# Altium footprint library outros_PCBLIB.PcbLib: 37 footprints (part 3 of 3)
Each footprint in its own frame and in the unit in brackets; x right, y up, seen from the top. Pads: shape width x height; smd on the part's side, far side on the other; paste and mask are expansions set on the pad; w line width, h text height; cw(c..) or ccw(c..) is an arc to the next point about the centre after c.
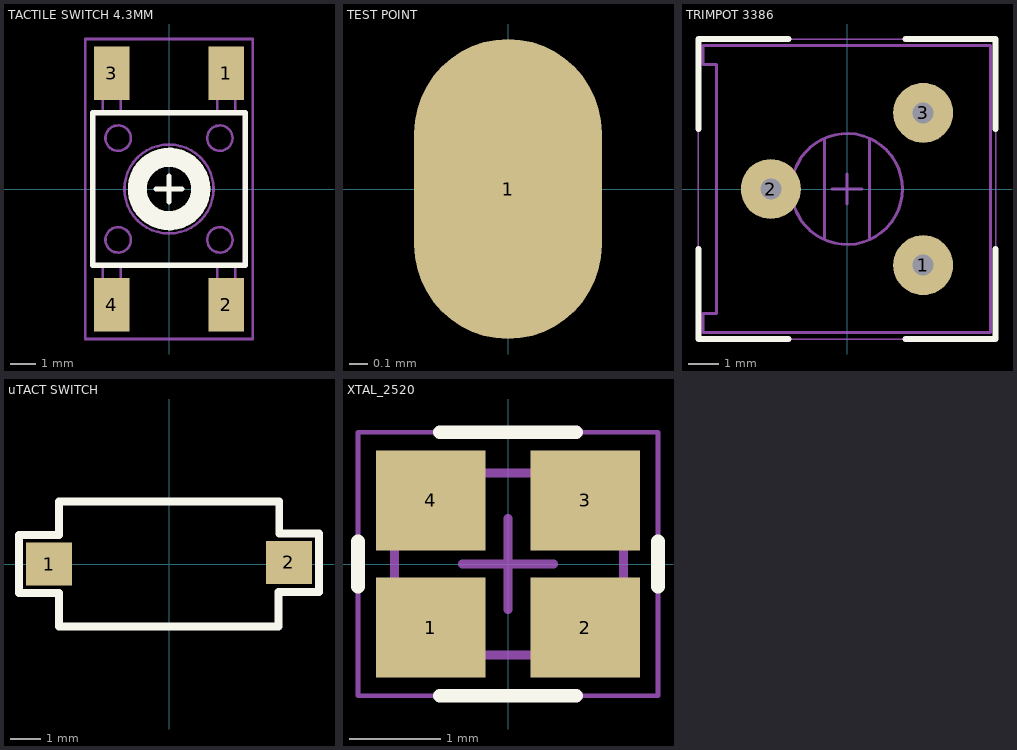
[diagram p2: the footprints below, top view; thin cyan lines are the x and y axes]

## TACTILE SWITCH 4.3MM [mm] "TACTILE SWITCH 4.3MM"
height 4.3
pads (4):
  rect 1.4x2.1 smd: 1(2.25,4.55) 2(2.25,-4.55) 3(-2.25,4.55) 4(-2.25,-4.55)
Top Overlay:
  circle w0.75: c0,0 r1.25
  lines w0.2: -0.508,0 0.508,0 ; 0,-0.508 0,0.508 ; -3,-3 3,-3 3,3 -3,3 -3,-3
Mechanical 13:
  circle w0.1: c0,0 r1.75
  circle w0.1: c-2,2 r0.5
  circle w0.1: c2,-2 r0.5
  circle w0.1: c2,2 r0.5
  circle w0.1: c-2,-2 r0.5
  lines w0.1: -2.6,-3 -2.6,-4.5 -1.9,-4.5 -1.9,-3 ; -2.6,3 -2.6,4.5 -1.9,4.5 -1.9,3 ; 1.9,-3 1.9,-4.5 2.6,-4.5 2.6,-3 ; 1.9,3 1.9,4.5 2.6,4.5 2.6,3 ; -3,-3 3,-3 3,3 -3,3 -3,-3
Mechanical 15:
  lines w0.1: -0.508,0 0.508,0 ; 0,-0.508 0,0.508 ; -3.3,-5.9 -3.3,5.9 3.3,5.9 3.3,-5.9 -3.3,-5.9
Mechanical 29:
  text ".Designator" at 0,0 h1
3D body "TACT_SW_4p3mm.STEP": height 4.32, standoff 0.02, extent -3,-4.5 3,4.5

## TEST POINT [mm] "TEST POINT"
pads (1):
  oval 1x1.6 smd mask-0.125: 1(0,0)
Mechanical 29:
  text ".Designator" at 0,0 h1

## TRIMPOT 3386 [mm] "Trimming Potentiometer; 3 leads; Vertical; Flat"
height 5
pads (3):
  round 2 hole 0.7: 1(2.54,-2.54) 2(-2.54,0) 3(2.54,2.54)
Top Overlay:
  lines w0.2: -4.95,-2 -4.95,-5 -1.95,-5 ; -4.95,2 -4.95,5 -1.95,5 ; 1.95,-5 4.95,-5 4.95,-2 ; 1.95,5 4.95,5 4.95,2
Mechanical 13:
  circle w0.1: c0,0 r1.85
  lines w0.1: -0.75,-1.65 -0.75,1.65 ; 0.75,-1.65 0.75,1.65 ; -4.8,-4.788 -4.8,-4.15 -4.35,-4.15 -4.35,4.15 -4.8,4.15 -4.8,4.788 4.776,4.788 4.776,-4.788 -4.8,-4.788
Mechanical 15:
  lines w0.05: -4.95,-5 -4.95,5 4.95,5 4.95,-5 -4.95,-5
  lines w0.1: -0.5,0 0.5,0 ; 0,-0.5 0,0.5
Mechanical 29:
  text ".Designator" at 0,0 h1.2
3D body "Trimpot_3386.STEP": height 5, standoff -1.92, extent -4.8,-4.788 4.776,4.788

## uTACT SWITCH [mm]
pads (2):
  rect 1.5x1.4 smd: 1(-3.9,0) 2(3.9,0.05)
Top Overlay:
  lines w0.254: -4.877,-0.94 -4.877,0.94 -3.581,0.94 -3.581,2.032 3.581,2.032 3.581,0.991 4.877,0.991 4.877,-0.914 3.556,-0.914 3.556,-2.032 -3.581,-2.032 -3.581,-0.94 -4.877,-0.94
3D body "botao.STEP": height 2.6, standoff 0.1, extent -3.397,-1.851 3.397,1.852

## XTAL_2520 [mm]
pads (4):
  rect 1.2x1.1 smd: 1(-0.85,-0.7) 2(0.85,-0.7) 3(0.85,0.7) 4(-0.85,0.7)
Top Overlay:
  lines w0.152: -1.65,-0.25 -1.65,0.25 ; -0.75,-1.45 0.75,-1.45 ; -0.75,1.45 0.75,1.45 ; 1.65,-0.25 1.65,0.25
Mechanical 13:
  lines w0.1: -1.05,-1 0.01,-1 ; -1.05,-1 ccw(c-1.25,-1) -1.25,-0.8 -1.25,0.8 ccw(c-1.25,1) -1.05,1 ; -1.05,1 0.01,1 1.07,1 ; 0.01,-1 1.07,-1 cw(c1.27,-1) 1.27,-0.8 1.27,0.8 cw(c1.27,1) 1.07,1
Mechanical 15:
  lines w0.05: -1.65,-1.45 -1.65,1.45 1.65,1.45 1.65,-1.45 -1.65,-1.45
  lines w0.1: -0.5,0 0.5,0 ; 0,-0.5 0,0.5
3D body: height 0.56, standoff 0.15, extent -1.05,-0.8 1.05,0.8
3D body "User Library-GeyerElectronics_KX6.step": height 0.56, standoff 0, extent -1.25,-1 1.27,1